# EAGLE library part 6253XX20621_62531420621 (library WR-BHD)
WR-BHD 2.00 mm Male Characteristics Rated current: 2 A Working Voltage: 250 V UL approval: E323964 UL94-V0 Applications Industrial Production lines Details see: www.we-online.com/components/products/WTB_WR_BHD_BOX_HEADER_2_00MM_MALE Updated by Ella 2026-09-16 2026 (C) Würth Elektronik
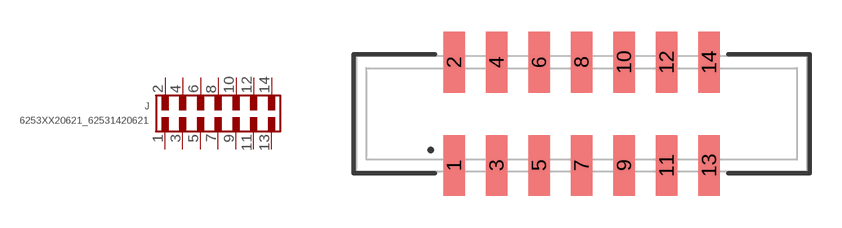
[diagram p129: symbol with the pads of 62531420621; footprint 62531420621]

Designator prefix J

## 6253XX20621_62531420621 (CATEGORY: Connectors; DATASHEET: https://www.we-online.com/redexpert/spec/62531420621?ae; GENDER: Male; LENGTH: 21.25 mm; MANUFACTURER: Würth Elektronik; MOUNT: SMT; MPN: 62531420621; OPERATING_TEMPERATURE: -40 °C up to +105 °C; PACKAGING: Tape and Reel with Cap; PINS: 14; PITCH: 2mm; SIZE: SMT Straight; TYPE: Straight; VALUE: 62531420621)  [62531420621]
1  1  pas
2  2  pas
3  3  pas
4  4  pas
5  5  pas
6  6  pas
7  7  pas
8  8  pas
9  9  pas
10  10  pas
11  11  pas
12  12  pas
13  13  pas
14  14  pas

## Footprint 62531420621 (pad centres in mm)
WR-BHD Wire-to-Board Connectors, 2mm, Male, SMT Straight, 14pins
smd 1 x 2.85: 1 -6,-2.425; 2 -6,2.425; 3 -4,-2.425; 4 -4,2.425; 5 -2,-2.425; 6 -2,2.425; 7 0,-2.425; 8 0,2.425; 9 2,-2.425; 10 2,2.425; 11 4,-2.425; 12 4,2.425; 13 6,-2.425; 14 6,2.425